# EAGLE library part AS6C62256-55PCN (library ef9345)
Alliance Memory AS6C62256-55PCN SRAM Memory, 256kbit, 2.7 5.5 V, 55ns 28-Pin PDIP Source: Datasheet <https://componentsearchengine.com/Datasheets/1/AS6C62256-55PCN.pdf>
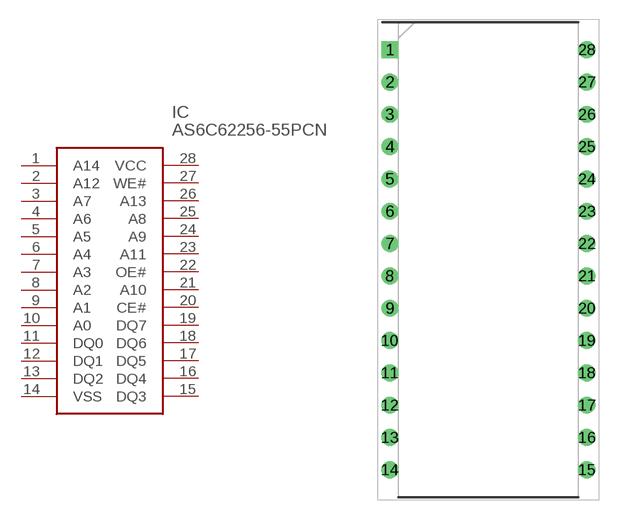
[diagram p1: symbol with the pads of DIL28; footprint DIL28]

Designator prefix IC

## AS6C62256-55PCNSTD (DESCRIPTION: Alliance Memory AS6C62256-55PCN SRAM Memory, 256kbit, 2.7 5.5 V, 55ns 28-Pin PDIP; HEIGHT: 3.81mm; MANUFACTURER_NAME: Alliance Memory; MANUFACTURER_PART_NUMBER: AS6C62256-55PCN; MOUSER_PART_NUMBER: 913-AS6C62256-55PCN; MOUSER_PRICE-STOCK: https://www.mouser.co.uk/ProductDetail/Alliance-Memory/AS6C62256-55PCN?qs=LD2UibpCYJqgbIupMJnGTQ%3D%3D)  [DIL28]
1  A14  in
2  A12  in
3  A7  in
4  A6  in
5  A5  in
6  A4  in
7  A3  in
8  A2  in
9  A1  in
10  A0  in
11  DQ0
12  DQ1
13  DQ2
14  VSS  pwr
15  DQ3
16  DQ4
17  DQ5
18  DQ6
19  DQ7
20  CE#  in
21  A10  in
22  OE#  in
23  A11  in
24  A9  in
25  A8  in
26  A13  in
27  WE#  in
28  VCC  pwr

## Footprint DIL28 (pad centres in mm)
28-Lead PDIP
drill 0.813 square: 1 -7.748,16.51
drill 0.813: 2 -7.748,13.97; 3 -7.748,11.43; 4 -7.748,8.89; 5 -7.748,6.35; 6 -7.748,3.81; 7 -7.748,1.27; 8 -7.748,-1.27; 9 -7.748,-3.81; 10 -7.748,-6.35; 11 -7.748,-8.89; 12 -7.748,-11.43; 13 -7.748,-13.97; 14 -7.748,-16.51; 15 7.748,-16.51; 16 7.748,-13.97; 17 7.748,-11.43; 18 7.748,-8.89; 19 7.748,-6.35; 20 7.748,-3.81; 21 7.748,-1.27; 22 7.748,1.27; 23 7.748,3.81; 24 7.748,6.35; 25 7.748,8.89; 26 7.748,11.43; 27 7.748,13.97; 28 7.748,16.51